# Altium schematic symbol library NorFalsh.SchLib: 1 symbol
Pins are listed as number, name and electrical type; pins without a type are passive.

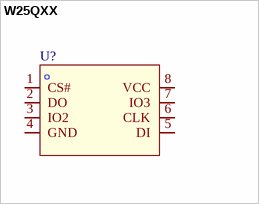
[diagram p0: symbol W25QXX]

## W25QXX
designator U?
pins: 1 CS#, 2 DO, 3 IO2, 4 GND, 5 DI, 6 CLK, 7 IO3, 8 VCC